# EAGLE library part NCP1079BBP100G (library Labops_Lib_AH)
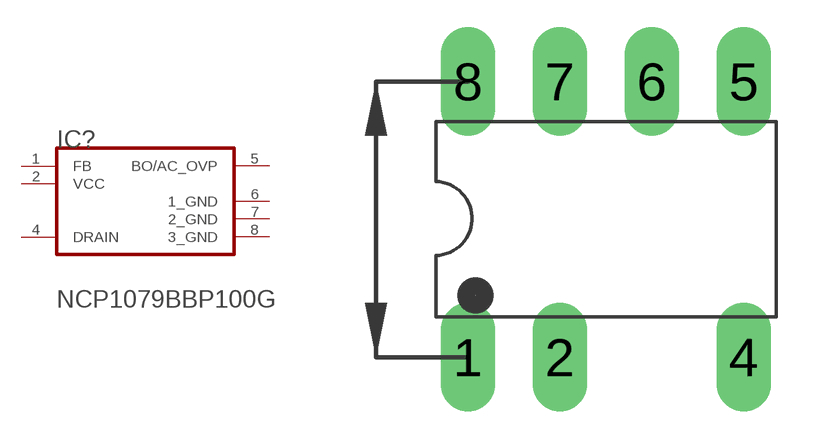
[diagram p85: symbol with the pads of PDIP-8C; footprint PDIP-8C]

Designator prefix IC?

## NCP1079BBP100G (DESCRIPTION: Flyback switching converter, 700V, 100KHz, 25Watt.; FOOTPRINT: PDIP-7; MFN: NCP1079BBP100G; MFR: On Semi)  [PDIP-8C]
1  FB  in
2  VCC  pwr
4  DRAIN  pas
5  BO/AC_OVP  pwr
6  1_GND  pwr
7  2_GND  pwr
8  3_GND  pwr

## Footprint PDIP-8C (pad centres in mm)
drill 0.9 pad 1.5 long: 1 -3.81,-3.81; 2 -1.27,-3.81; 4 3.81,-3.81; 5 3.81,3.81; 6 1.27,3.81; 7 -1.27,3.81; 8 -3.81,3.81